# EAGLE library part PIC32MM0256GPM028_UQFN (library PIC32MM0256GPM028_UQFN)
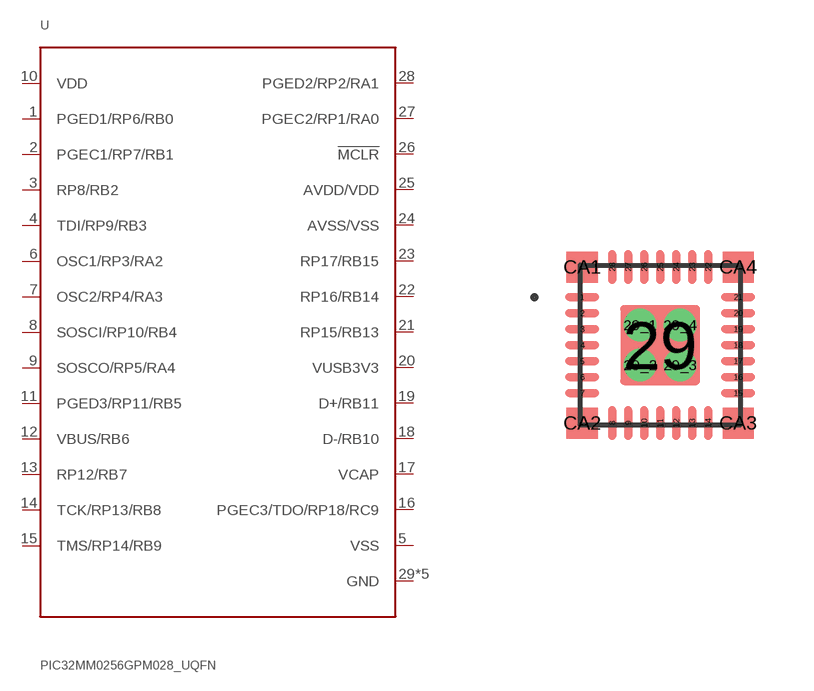
[diagram p0: symbol with the pads of PIC32MM0256GPM028_UQFN; footprint PIC32MM0256GPM028_UQFN]

Designator prefix -

## PIC32MM0256GPM028_UQFNA  [PIC32MM0256GPM028_UQFN]
1  PGED1/RP6/RB0
2  PGEC1/RP7/RB1
3  RP8/RB2
4  TDI/RP9/RB3
5  VSS
6  OSC1/RP3/RA2
7  OSC2/RP4/RA3
8  SOSCI/RP10/RB4
9  SOSCO/RP5/RA4
10  VDD
11  PGED3/RP11/RB5
12  VBUS/RB6
13  RP12/RB7
14  TCK/RP13/RB8
15  TMS/RP14/RB9
16  PGEC3/TDO/RP18/RC9
17  VCAP
18  D-/RB10
19  D+/RB11
20  VUSB3V3
21  RP15/RB13
22  RP16/RB14
23  RP17/RB15
24  AVSS/VSS
25  AVDD/VDD
26  !MCLR
27  PGEC2/RP1/RA0
28  PGED2/RP2/RA1
29  GND
29_1  GND
29_2  GND
29_3  GND
29_4  GND

## Footprint PIC32MM0256GPM028_UQFN (pad centres in mm)
smd 0.85 x 0.2: 1 -1.95,1.2; 2 -1.95,0.8; 3 -1.95,0.4; 4 -1.95,0; 5 -1.95,-0.4; 6 -1.95,-0.8; 7 -1.95,-1.2; 15 1.95,-1.2; 16 1.95,-0.8; 17 1.95,-0.4; 18 1.95,0; 19 1.95,0.4; 20 1.95,0.8; 21 1.95,1.2
smd 0.2 x 0.85: 8 -1.2,-1.95; 9 -0.8,-1.95; 10 -0.4,-1.95; 11 0,-1.95; 12 0.4,-1.95; 13 0.8,-1.95; 14 1.2,-1.95; 22 1.2,1.95; 23 0.8,1.95; 24 0.4,1.95; 25 0,1.95; 26 -0.4,1.95; 27 -0.8,1.95; 28 -1.2,1.95
smd 2 x 2: 29 0,0
drill 0.3 pad 0.45: 29_1 -0.5,0.5; 29_2 -0.5,-0.5; 29_3 0.5,-0.5; 29_4 0.5,0.5
smd 0.78 x 0.78: CA1 -1.95,1.95; CA2 -1.95,-1.95; CA3 1.95,-1.95; CA4 1.95,1.95